# Altium schematic symbol library Converters DC-DC .SchLib: 1 symbol
Pins are listed as number, name and electrical type; pins without a type are passive.

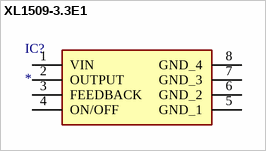
[diagram p0: symbol XL1509-3.3E1]

## XL1509-3.3E1
designator IC?
Integrated Circuit; Manufacturer_Name: XLSEMI; Manufacturer_Part_Number: XL1509-3.3E1; Datasheet Link: https://datasheet.lcsc.com/szlcsc/XLSEMI-XL1509-3-3E1_C74193.pdf; Height: 1.75mm
footprint SOIC127P600X175-8N
pins: 1 VIN, 2 OUTPUT, 3 FEEDBACK, 4 ON/OFF, 5 GND_1, 6 GND_2, 7 GND_3, 8 GND_4